# Altium footprint library SnapEDApcb.PcbLib: 1 footprints
Each footprint in its own frame and in the unit in brackets; x right, y up, seen from the top. Pads: shape width x height; smd on the part's side, far side on the other; paste and mask are expansions set on the pad; w line width, h text height; cw(c..) or ccw(c..) is an arc to the next point about the centre after c.
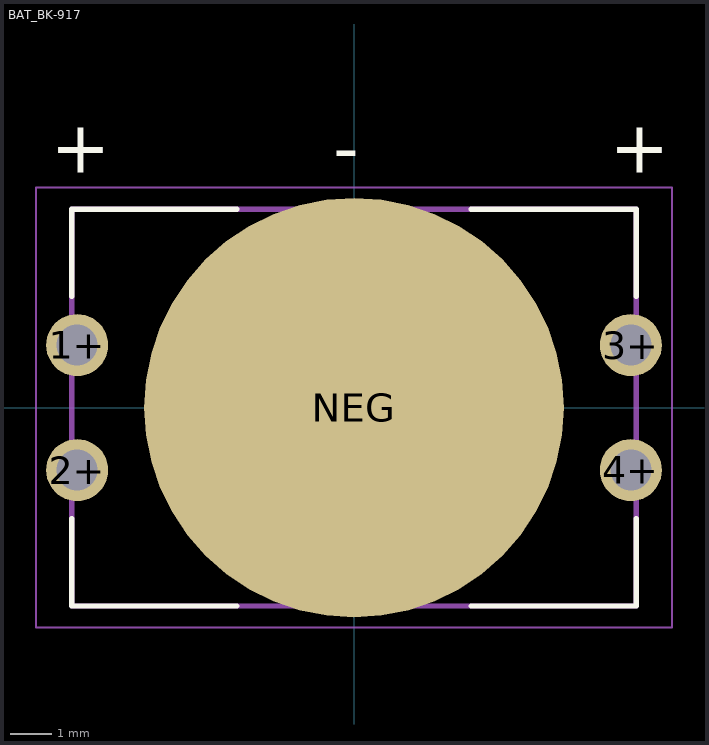
[diagram p0: the footprint, top view; thin cyan lines are the x and y axes]

## BAT_BK-917 [mm]
pads (5):
  round 1.508 hole 1: 1+(-6.73,1.52) 2+(-6.73,-1.52) 3+(6.73,1.52) 4+(6.73,-1.52)
  round 10.2 smd paste-6: NEG(0,0)
Top Overlay:
  lines w0.127: -6.86,-2.7 -6.86,-4.825 -2.85,-4.825 ; -6.86,2.7 -6.86,4.825 -2.85,4.825 ; 2.85,-4.825 6.86,-4.825 6.86,-2.7 ; 2.85,4.825 6.86,4.825 6.86,2.7
  text "-" at -0.508,5.715 h1.27
  text "+" at 6.223,5.715 h1.27
  text "+" at -7.366,5.715 h1.27
Mechanical 13:
  lines w0.127: -6.86,-4.825 -6.86,4.825 6.86,4.825 6.86,-4.825 -6.86,-4.825
  text "-" at -0.508,5.715 h1.27
  text "+" at 6.223,5.715 h1.27
  text "+" at -7.366,5.715 h1.27
Mechanical 15:
  lines w0.05: -7.735,-5.35 -7.735,5.35 7.735,5.35 7.735,-5.35 -7.735,-5.35